# Altium footprint library SBC-2410X-.PCBLIB: 37 footprints (part 2 of 3)
Each footprint in its own frame and in the unit in brackets; x right, y up, seen from the top. Pads: shape width x height; smd on the part's side, far side on the other; paste and mask are expansions set on the pad; w line width, h text height; cw(c..) or ccw(c..) is an arc to the next point about the centre after c.
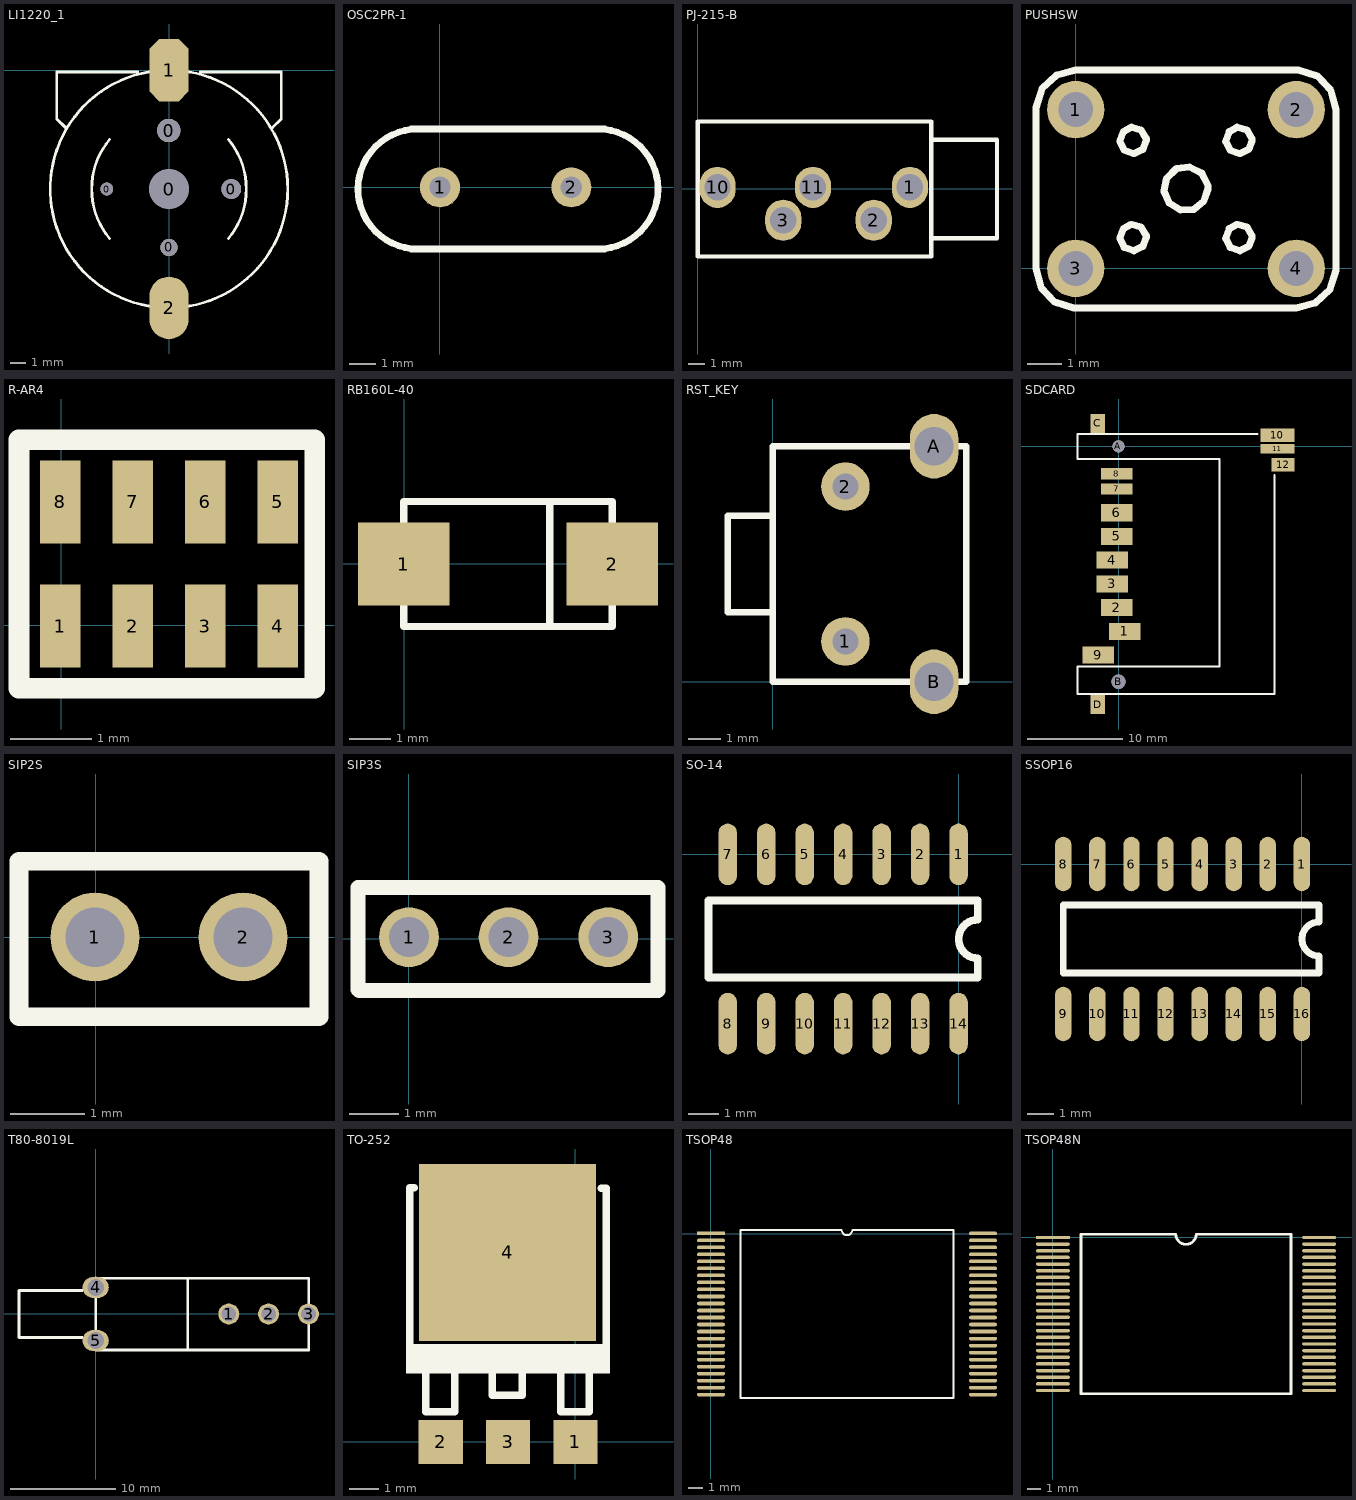
[diagram p1: the footprints below, top view; thin cyan lines are the x and y axes]

## LI1220_1 [mm]
pads (7):
  round 0.813 hole 0.813: 0(-3.995,-7.604)
  round 1.5 hole 1.5: 0(-0.032,-3.854)
  round 1.1 hole 1.1: 0(-0.007,-11.354)
  round 2.54 hole 2.54: 0(-0.007,-7.604)
  round 1.27 hole 1.27: 0(3.981,-7.604)
  oct 2.5x4 smd: 1(-0.007,0.016)
  oval 2.5x4 smd: 2(-0.007,-15.224)
TopOverlay:
  lines w0.178: -6.632,-3.679 -7.207,-3.104 -7.207,-0.104 -2.007,-0.104 ; -3.82,-10.776 cw(c-0.007,-7.604) -3.817,-4.429 ; -0.84,-15.178 cw(c-0.007,-7.604) -0.84,-0.03 ; 0.826,-15.178 ccw(c-0.007,-7.604) 7.613,-7.604 ccw(c-0.007,-7.604) 0.826,-0.03 ; 1.993,-0.104 7.193,-0.104 7.193,-3.104 6.593,-3.704 ; 3.805,-10.776 ccw(c-0.007,-7.604) 3.808,-4.435

## OSC2PR-1 [mil]
pads (2):
  round 60 hole 32: 1(0.42,-0.46) 2(197.42,-0.46)
TopOverlay:
  lines w10: -42.58,-92.96 247.42,-92.96 ; -42.58,87.04 247.42,87.04 ; -32.58,-92.96 cw(c-32.58,-2.96) -32.58,87.04 ; 237.42,-92.96 ccw(c237.42,-2.96) 237.42,87.04

## PJ-215-B [mm]
pads (5):
  oval 2.2x2.5 hole 1.6: 1(12.907,0.089) 2(10.707,-1.911) 3(5.207,-1.911) 10(1.207,0.089) 11(7.007,0.089)
TopOverlay:
  lines w0.254: 14.207,-3.011 18.207,-3.011 18.207,2.989 14.207,2.989 ; 0.007,-4.111 14.207,-4.111 14.207,4.089 0.007,4.089 0.007,-4.111

## PUSHSW [mil]
pads (4):
  round 65 hole 39.37: 1(0.06,179.65) 2(250.06,179.65) 3(0.06,-0.35) 4(250.06,-0.35)
TopOverlay:
  lines w8: -44.94,-0.35 -44.94,179.65 -44.94,181.65 -37.94,203.65 -21.94,218.65 0.06,224.65 250.06,224.65 252.06,224.65 274.06,217.65 289.06,201.65 295.06,179.65 295.06,-0.35 295.06,-2.35 288.06,-24.35 272.06,-39.35 250.06,-45.35 0.06,-45.35 -1.94,-45.35 -23.94,-38.35 -38.94,-22.35 -44.94,-0.35 ; 50.06,33.65 54.06,44.65 63.06,49.65 74.06,46.65 80.06,36.65 80.06,34.65 76.06,24.65 66.06,19.65 55.06,23.65 50.06,33.65 ; 50.06,143.65 54.06,154.65 63.06,159.65 74.06,156.65 80.06,146.65 80.06,144.65 76.06,134.65 66.06,129.65 55.06,133.65 50.06,143.65 ; 100.06,87.65 103.06,101.65 114.06,112.65 129.06,114.65 143.06,107.65 150.06,93.65 150.06,89.65 145.06,75.65 134.06,66.65 119.06,65.65 106.06,73.65 100.06,87.65 ; 170.06,33.65 174.06,44.65 183.06,49.65 194.06,46.65 200.06,36.65 200.06,34.65 196.06,24.65 186.06,19.65 175.06,23.65 170.06,33.65 ; 170.06,143.65 174.06,154.65 183.06,159.65 194.06,156.65 200.06,146.65 200.06,144.65 196.06,134.65 186.06,129.65 175.06,133.65 170.06,143.65

## R-AR4 [mm]
pads (8):
  rect 0.5x1.016 smd: 1(-0.008,-0.012) 2(0.881,-0.012) 3(1.77,-0.012) 4(2.659,-0.012) 5(2.659,1.512) 6(1.77,1.512) 7(0.881,1.512) 8(-0.008,1.512)
TopOverlay:
  lines w0.254: 3.065,-0.774 -0.516,-0.774 -0.516,2.274 3.116,2.274 3.116,-0.774

## RB160L-40 [mm]
pads (2):
  rect 2.2x2 smd: 1(-0.014,-0.01) 2(4.986,-0.01)
TopOverlay:
  lines w0.178: -0.014,-1.01 -0.014,-1.51 4.986,-1.51 4.986,-1.01 ; -0.014,0.99 -0.014,1.49 4.986,1.49 4.986,0.99 ; 3.486,-1.51 3.486,1.49

## RST_KEY [mm]
pads (4):
  round 1.5 hole 0.8: 1(2.25,1.25) 2(2.25,6.05)
  oval 1.5x2 hole 1.2: A(5,7.3) B(5,0)
TopOverlay:
  lines w0.2: 0,2.15 -1.4,2.15 -1.4,5.15 0,5.15 ; 0,0 0,7.3 6,7.3 6,0 0,0

## SDCARD [mm]
pads (16):
  rect 3.32x1.8 smd: 1(0.655,-19.487) 2(-0.175,-16.987) 3(-0.645,-14.487) 4(-0.645,-11.987) 5(-0.175,-9.487) 6(-0.175,-6.987) 9(-2.145,-21.987)
  rect 3.32x1.2 smd: 7(-0.175,-4.487) 8(-0.175,-2.862)
  rect 3.6x1.4 smd: 10(16.73,1.163)
  rect 3.6x1 smd: 11(16.73,-0.237)
  rect 2.4x1.4 smd: 12(17.32,-1.937)
  round 1.27 hole 1.27: A(-0.01,0.013)
  round 1.5 hole 1.5: B(-0.01,-24.787)
  rect 1.5x2 smd: C(-2.205,2.413) D(-2.205,-27.187)
TopOverlay:
  lines w0.204: -4.33,1.288 -4.33,-1.307 10.62,-1.307 10.62,-23.187 -4.33,-23.187 -4.33,-26.087 16.42,-26.087 16.42,-2.987 ; -4.33,1.313 14.62,1.313

## SIP2S [mm]
pads (2):
  round 1.2 hole 0.8: 1(-0.009,0.004) 2(1.991,0.004)
TopOverlay:
  lines w0.254: -1.034,1.029 -1.034,-1.071 3.016,-1.071 3.016,1.029 -1.034,1.029 ; -1.034,1.029 -1.034,1.029

## SIP3S [mm]
pads (3):
  round 1.2 hole 0.8: 1(0.008,0.034) 2(2.008,0.034) 3(4.008,0.034)
TopOverlay:
  lines w0.305: -1.017,-1.016 -1.017,0.034 -1.017,1.034 5.008,1.034 5.008,-1.041 -0.992,-1.041 -1.017,-1.016

## SO-14 [mil]
pads (14):
  oval 24x80 smd: 1(-0.24,0.12) 2(-50.24,0.12) 3(-100.24,0.12) 4(-150.24,0.12) 5(-200.24,0.12) 6(-250.24,0.12) 7(-300.24,0.12) 8(-300.24,-219.88) 9(-250.24,-219.88) 10(-200.24,-219.88) 11(-150.24,-219.88) 12(-100.24,-219.88) 13(-50.24,-219.88) 14(-0.24,-219.88)
TopOverlay:
  lines w10: -325.24,-159.88 -325.24,-59.88 24.76,-59.88 24.76,-84.88 ccw(c24.76,-109.88) 24.76,-134.88 24.76,-159.88 -325.24,-159.88

## SSOP16 [mil]
pads (16):
  oval 24x80 smd: 1(0.17,0.43) 2(-49.83,0.43) 3(-99.83,0.43) 4(-149.83,0.43) 5(-199.83,0.43) 6(-249.83,0.43) 7(-299.83,0.43) 8(-349.83,0.43) 9(-349.83,-219.57) 10(-299.83,-219.57) 11(-249.83,-219.57) 12(-199.83,-219.57) 13(-149.83,-219.57) 14(-99.83,-219.57) 15(-49.83,-219.57) 16(0.17,-219.57)
TopOverlay:
  lines w10: -349.83,-159.57 25.17,-159.57 25.17,-134.57 cw(c25.17,-109.57) 25.17,-84.57 25.17,-59.57 -349.83,-59.57 -349.83,-159.57

## T80-8019L [mm]
pads (5):
  round 2 hole 1.4: 1(12.69,-0.002) 2(16.49,-0.002) 3(20.3,-0.002)
  oval 2.5x2 hole 1.6: 4(-0.01,2.538) 5(-0.01,-2.542)
TopOverlay:
  lines w0.254: -1.285,-2.252 -7.33,-2.252 -7.33,2.248 -1.285,2.248 ; -0.01,3.423 20.315,3.423 20.315,-2.542 20.315,-3.427 20.31,-3.432 -0.01,-3.432 -0.01,3.428 ; 8.79,-3.432 8.79,3.423

## TO-252 [mm]
pads (4):
  rect 1.5x1.5 smd: 1(0.005,-0.003) 2(-4.567,-0.003) 3(-2.281,-0.003)
  rect 6x6 smd: 4(-2.295,6.422)
TopOverlay:
  rectangle: -5.745,2.322 1.18,3.322
  lines w0.254: -5.62,3.147 -5.62,8.622 ; -5.595,8.622 -5.47,8.622 ; -5.07,2.272 -5.07,1.022 -4.095,1.022 ; -4.095,2.297 -4.095,1.022 ; -2.82,2.272 -2.82,1.572 -1.795,1.572 -1.795,2.372 ; -0.495,2.272 -0.495,1.022 0.48,1.022 ; 0.48,2.297 0.48,1.022 ; 0.88,8.597 1.03,8.597 ; 1.055,3.172 1.055,8.597 ; -4.095,1.022 -4.095,1.022 ; 0.48,1.022 0.48,1.022

## TSOP48 [mil]
pads (48):
  rect 78.74x10 smd: 1(0.07,0.33)
  oval 78.74x10 smd: 2(0.07,-19.35) 3(0.07,-39.04) 4(0.07,-58.72) 5(0.07,-78.41) 6(0.07,-98.09) 7(0.07,-117.78) 8(0.07,-137.46) 9(0.07,-157.15) 10(0.07,-176.83) 11(0.07,-196.52) 12(0.07,-216.2) 13(0.07,-235.89) 14(0.07,-255.57) 15(0.07,-275.26) 16(0.07,-294.94) 17(0.07,-314.63) 18(0.07,-334.31) 19(0.07,-354) 20(0.07,-373.68) 21(0.07,-393.37) 22(0.07,-413.05) 23(0.07,-432.74) 24(0.07,-452.42) 25(763.85,-452.42) 26(763.85,-432.74) 27(763.85,-413.05) 28(763.85,-393.37) 29(763.85,-373.68) 30(763.85,-354) 31(763.85,-334.31) 32(763.85,-314.63) 33(763.85,-294.94) 34(763.85,-275.26) 35(763.85,-255.57) 36(763.85,-235.89) 37(763.85,-216.2) 38(763.85,-196.52) 39(763.85,-176.83) 40(763.85,-157.15) 41(763.85,-137.46) 42(763.85,-117.78) 43(763.85,-98.09) 44(763.85,-78.41) 45(763.85,-58.72) 46(763.85,-39.04) 47(763.85,-19.35) 48(763.85,0.33)
TopOverlay:
  lines w5.51: 366.04,10.17 82.39,10.17 82.39,-462.27 681.53,-462.27 681.53,10.17 397.88,10.17 ; 366.96,10.17 ccw(c381.96,10.17) 396.96,10.17

## TSOP48N [mil]
pads (48):
  rect 100x10 smd: 1(0.09,-0.33)
  oval 100x10 smd: 2(0.09,-20.02) 3(0.09,-39.7) 4(0.09,-59.39) 5(0.09,-79.07) 6(0.09,-98.76) 7(0.09,-118.44) 8(0.09,-138.13) 9(0.09,-157.81) 10(0.09,-177.5) 11(0.09,-197.18) 12(0.09,-216.87) 13(0.09,-236.55) 14(0.09,-256.24) 15(0.09,-275.92) 16(0.09,-295.61) 17(0.09,-315.29) 18(0.09,-334.98) 19(0.09,-354.66) 20(0.09,-374.35) 21(0.09,-394.03) 22(0.09,-413.72) 23(0.09,-433.4) 24(0.09,-453.09) 25(787.5,-453.09) 26(787.5,-433.4) 27(787.5,-413.72) 28(787.5,-394.03) 29(787.5,-374.35) 30(787.5,-354.66) 31(787.5,-334.98) 32(787.5,-315.29) 33(787.5,-295.61) 34(787.5,-275.92) 35(787.5,-256.24) 36(787.5,-236.55) 37(787.5,-216.87) 38(787.5,-197.18) 39(787.5,-177.5) 40(787.5,-157.81) 41(787.5,-138.13) 42(787.5,-118.44) 43(787.5,-98.76) 44(787.5,-79.07) 45(787.5,-59.39) 46(787.5,-39.7) 47(787.5,-20.02) 48(787.5,-0.33)
TopOverlay:
  lines w7.87: 82.97,-462.93 82.97,9.51 363.64,9.51 ccw(c393.8,9.51) 423.95,9.51 704.62,9.51 704.62,-462.93 82.97,-462.93